# Altium schematic symbol library NB7VQ14MMNHTBG.SchLib: 1 symbol
Pins are listed as number, name and electrical type; pins without a type are passive.

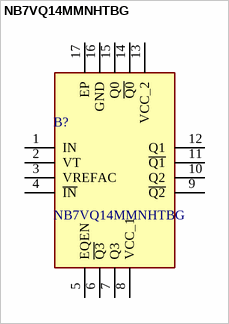
[diagram p0: symbol NB7VQ14MMNHTBG]

## NB7VQ14MMNHTBG
designator B?
NB7VQ14MMNHTBG, Clock Generator CML, LVDS, LVPECL CML, 16-Pin QFN; Manufacturer_Name: onsemi; Geometry.Height: 1mm; Manufacturer_Part_Number: NB7VQ14MMNHTBG; Mouser Part Number: 863-NB7VQ14MMNHTBG; Mouser Price/Stock: https://www.mouser.co.uk/ProductDetail/onsemi/NB7VQ14MMNHTBG?qs=3PKVEWFFm2%2FWq%2FFZ4xstfg%3D%3D; Arrow Part Number: NB7VQ14MMNHTBG; Arrow Price/Stock: https://www.arrow.com/en/products/nb7vq14mmnhtbg/on-semiconductor?utm_currency=USD&region=nac; Datasheet Link: http://www.onsemi.com/pub/Collateral/NB7VQ14M-D.PDF
footprint QFN50P300X300X100-17N
pins: 1 IN, 2 VT, 3 VREFAC, 4 ~{IN}, 5 EQEN, 6 ~{Q3}, 7 Q3, 8 VCC_1, 9 ~{Q2}, 10 Q2, 11 ~{Q1}, 12 Q1, 13 VCC_2, 14 ~{Q0}, 15 Q0, 16 GND, 17 EP